# Altium schematic symbol library Schlib1.SchLib: 179 symbols
Pins are listed as number, name and electrical type; pins without a type are passive.

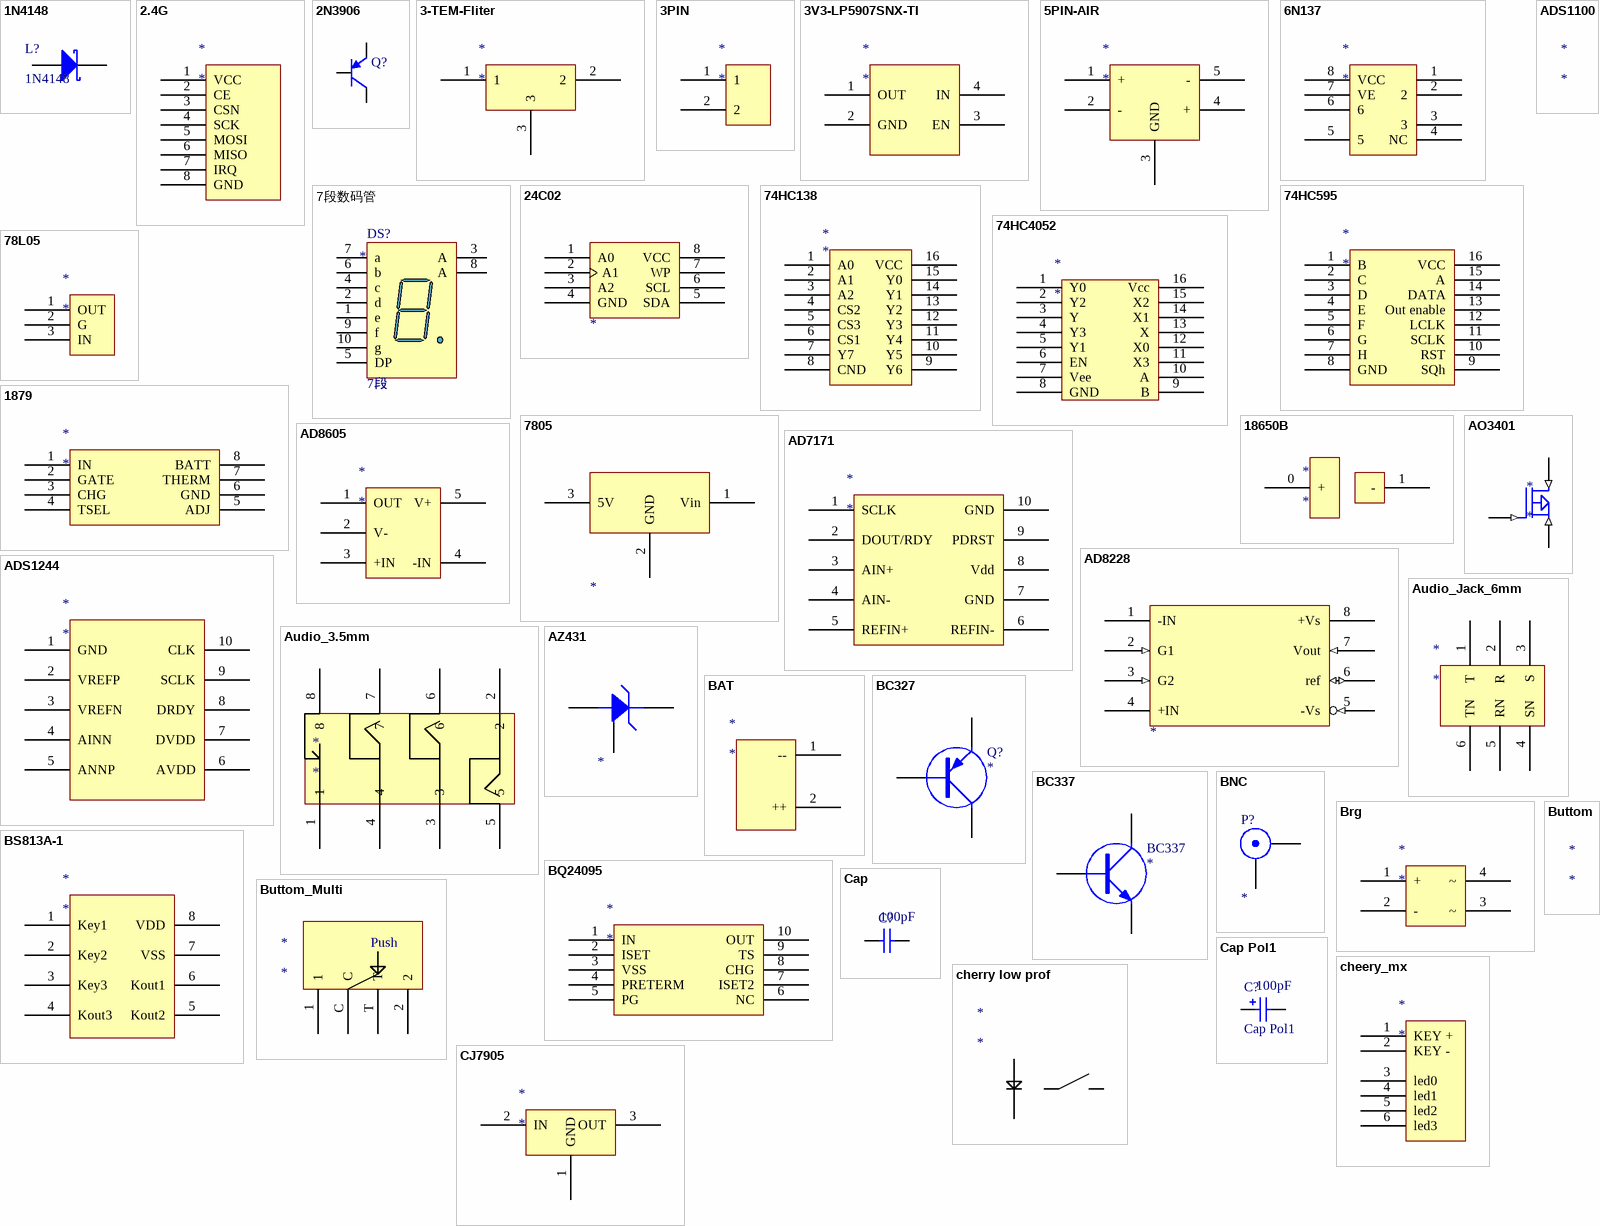
[diagram p0: symbols 1N4148 to CJ7905]

## 1N4148
designator L?
footprint C2012 (Chip Capacitor, 2-Leads, Body 2.0x1.2mm, IPC Low Density)
footprint SS54-DO-214AC
footprint SOD123/X.85 (SOD-123; 2 Leads; Body 2.7 x 1.6 mm, (LxW))
pins: 1 A, 2 K

## 2.4G
designator *
footprint 2.4G
pins: 1 VCC, 2 CE, 3 CSN, 4 SCK, 5 MOSI, 6 MISO, 7 IRQ, 8 GND

## 2N3906
designator Q?
PNP General Purpose Amplifier; Published: 8-Jun-2000; LatestRevisionDate: 15-Jan-2003; LatestRevisionNote: PCB Footprint 'BCY-W3/D4.7' replaced; DatasheetVersion: 1997; PackageVersion: Sep-1998; PackageReference: TO-92A; Publisher: Altium Limited; Code_JEDEC: TO-92A; ComponentLink1Description: Manufacturer Link; ComponentLink1URL: http://www.fairchildsemi.com/; ComponentLink2Description: Datasheet; ComponentLink2URL: http://www.fairchildsemi.com/ds/2N%2F2N3906.pdf
footprint BCY-W3/E4 (TO, Flat Index; 3 In-Line, Axial Leads; Body Dia. 4.5mm; Leads 0.51 x 0.48 mm (max))
simulation model 2N3906 (PNP)
signal-integrity model 2N3906
footprint AO3401
pins: 1 B, 2 E, 3 C

## 3-TEM-Fliter
designator *
pins: 1, 2, 3

## 3PIN
designator *
pins: 1, 2

## 3V3-LP5907SNX-TI
designator *
footprint X2SON_TLV743P (TI X2SON 5PIN 1.0 x 1.0 mm)
pins: 1 OUT, 2 GND, 3 EN, 4 IN

## 5PIN-AIR
designator *
pins: 1 +, 2 -, 3 GND, 4 +, 5 -

## 6N137
designator *
footprint DIP8
pins: 1, 2, 3, 4 NC, 5, 6, 7 VE, 8 VCC

## 7段数码管
designator DS?
14.2 mm General Purpose Blue 7-Segment Display: CA, RH DP, Gray Surface; MinimumIntensity: 2020 ucd; Note: IF = 10 mA; Published: 8-Jun-2000; LatestRevisionDate: 17-Dec-2003; LatestRevisionNote: Schematic revised, PCB Footprint replaced.; DatasheetVersion: 24-Sep-2002; PackageVersion: 24-Sep-2002; PackageReference: H; Publisher: Altium Limited; Colour: Blue; ComponentLink1Description: Manufacturer Link; ComponentLink1URL: http://www.agilent.com/
footprint LED-DIP10
footprint LEDDIP-10/C15.24RHD (LED, 7-Segment Display, 14.2 mm, RHD; 10 Leads; Row Space 15.24 mm; Pitch 2.54 mm)
pins: 1 e "Cathode", 2 d "Cathode", 3 A "Common Anode", 4 c "Cathode", 5 DP "Cathode", 6 b "Cathode", 7 a "Cathode", 8 A "Common Anode", 9 f "Cathode", 10 g "Cathode"
text: 7段

## 24C02
designator ?
footprint SI4435
pins: 1 A0, 2 A1, 3 A2, 4 GND, 5 SDA, 6 SCL, 7 WP, 8 VCC

## 74HC138
designator *
footprint SO-16
pins: 1 A0, 2 A1, 3 A2, 4 CS2, 5 CS3, 6 CS1, 7 Y7, 8 CND, 9 Y6, 10 Y5, 11 Y4, 12 Y3, 13 Y2, 14 Y1, 15 Y0, 16 VCC

## 74HC595
designator *
footprint 74HC595
pins: 1 B, 2 C, 3 D, 4 E, 5 F, 6 G, 7 H, 8 GND, 9 SQh, 10 RST, 11 SCLK, 12 LCLK, 13 Out enable, 14 DATA, 15 A, 16 VCC

## 74HC4052
designator *
footprint TSSOP-16
pins: 1 Y0, 2 Y2, 3 Y, 4 Y3, 5 Y1, 6 EN, 7 Vee, 8 GND, 9 B, 10 A, 11 X3, 12 X0, 13 X, 14 X1, 15 X2, 16 Vcc

## 78L05
designator *
footprint SOT-89-3
pins: 1 OUT, 2 G, 3 IN

## 1879
designator *
footprint 1879 (TSOP, 8-Leads, Body 3.00x3.00mm, Pitch 0.65mm, IPC Medium Density)
pins: 1 IN, 2 GATE, 3 CHG, 4 TSEL, 5 ADJ, 6 GND, 7 THERM, 8 BATT

## 7805
designator ?
footprint TO-252AA
footprint TO-220AB
pins: 1 Vin, 2 GND, 3 5V

## 18650B
designator *
pins: 0 +, 1 -

## AD7171
designator *
pins: 1 SCLK, 2 DOUT/RDY, 3 AIN+, 4 AIN-, 5 REFIN+, 6 REFIN-, 7 GND, 8 Vdd, 9 PDRST, 10 GND

## AD8228
designator ?
footprint MSOP-8
pins: 1 -IN, 2 G1 (in), 3 G2 (in), 4 +IN (power), 5 -Vs (in), 6 ref (io), 7 Vout (in), 8 +Vs (power)

## AD8605
designator *
footprint LC-SOT-23-5
pins: 1 OUT, 2 V-, 3 +IN, 4 -IN, 5 V+

## ADS1100
designator *

## ADS1244
designator *
24_ADC
pins: 1 GND, 2 VREFP, 3 VREFN, 4 AINN, 5 ANNP, 6 AVDD, 7 DVDD, 8 DRDY, 9 SCLK, 10 CLK

## AO3401
designator *
footprint AO3401
pins: 1 G (in), 2 S (in), 3 D (in)

## Audio_3.5mm
designator *
footprint Audio_3.5mm
pins: 1, 2, 3, 4, 5, 6, 7, 8

## Audio_Jack_6mm
designator *
footprint Audio_Jack6mm
pins: 1 T, 2 R, 3 S, 4 SN, 5 RN, 6 TN

## AZ431
designator ?
footprint tl431
footprint AZ431
pins: 1 REF, 2 CATHODE, 3 ANODE

## BAT
designator *
footprint CR2032-1
pins: 1 --, 2 ++

## BC327
designator Q?
PNP Transistor
footprint TO-92B
pins: 1 C, 2 B, 3 E

## BC337
designator BC337
NPN Transistor
footprint TO-92B
pins: 1 C, 2 B, 3 E

## BNC
designator P?
BNC Connector
footprint BNC
pins: 1 X, 2 Y

## BQ24095
designator *
pins: 1 IN, 2 ISET, 3 VSS, 4 PRETERM, 5 PG, 6 NC, 7 ISET2, 8 CHG, 9 TS, 10 OUT

## Brg
designator *
footprint SOIC-4
footprint Brg-DB207S
pins: 1 +, 2 -, 3 ~, 4 ~

## BS813A-1
designator *
footprint SI4435
pins: 1 Key1, 2 Key2, 3 Key3, 4 Kout3, 5 Kout2, 6 Kout1, 7 VSS, 8 VDD

## Buttom
designator *
footprint KEY-SMT

## Buttom_Multi
designator *
footprint Buttom
pins: 1, 2, C, T
text: Push

## Cap
designator C?, comment 100pF
Capacitor; Published: 8-Jun-2000; LatestRevisionDate: 17-Jul-2002; LatestRevisionNote: Re-released for DXP Platform.; PackageReference: RAD-0.3; Publisher: Altium Limited; Value: 100pF
footprint 1206C
footprint CAP_0603
pins: 1, 2

## Cap Pol1
designator C?  value 100pF
Polarized Capacitor (Radial); Published: 8-Jun-2000; LatestRevisionDate: 17-Jul-2002; LatestRevisionNote: Re-released for DXP Platform.; PackageReference: RB7.6-15; Publisher: Altium Limited
footprint 6032
footprint CAPPR1.27-1.7x2.8 (Capacitor, Radial, Tantalum; Body 1.7 x 2.8 mm (Dia.xH max); Pin Spacing 1.27 mm (typ))
footprint CAPPR1.5-4x5 (Capacitor, Electrolytic, Radial; Body 4 x 5 mm (Dia.xH typ); Pin Spacing 1.5 mm (typ))
footprint CAPPR2-5x6.8 (Capacitor, Electrolytic, Radial; Body 5 x 6.8 mm (Dia.xH typ); Pin Spacing 2 mm (typ))
footprint CAPPR5-5x5 (Capacitor, Electrolytic, Radial; Body 5 x 5 mm (Dia.xH typ); Pin Spacing 5 mm (typ))
footprint CAPPR7.5-16x35 (Capacitor, Electrolytic, Radial; Body 16 x 35 mm (Dia.xH typ); Pin Spacing 7.5 mm (typ))
simulation model CAP (Capacitor)
signal-integrity model Cap Pol
footprint 7243
footprint C-16V22UF
footprint C3528
footprint B_3528_LC_CASE
pins: 1, 2
1 alternate drawing of the same symbol

## cheery_mx
designator *
footprint cheery_mx
pins: 1 KEY +, 2 KEY -, 3 led0, 4 led1, 5 led2, 6 led3

## cherry low prof
designator *
footprint Kailh_Mec
pins: 1 +, 2 -, 3 +, 4 -

## CJ7905
designator *
footprint TO-252AA
pins: 1 GND, 2 IN, 3 OUT

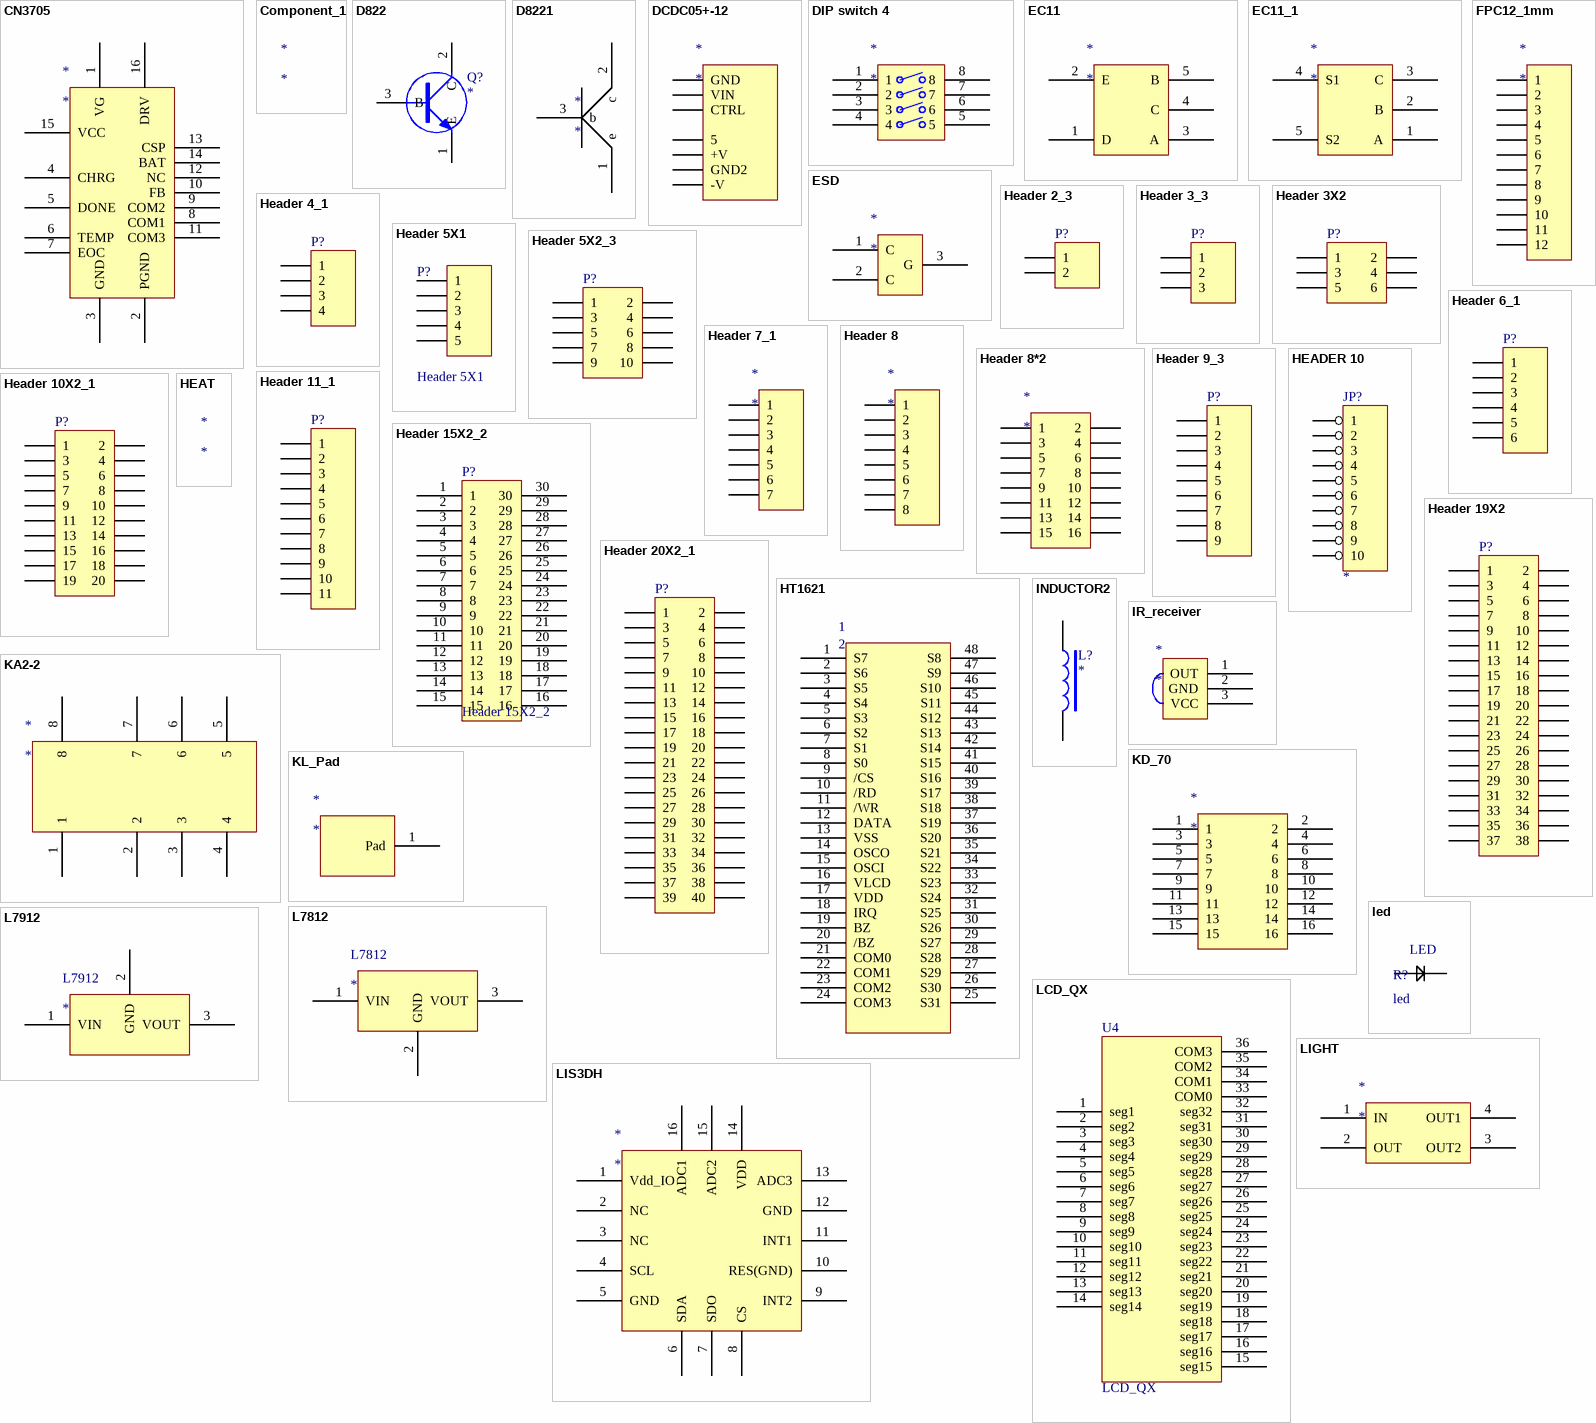
[diagram p1: symbols CN3705 to LIS3DH]

## CN3705
designator *
footprint TSSOP-16
pins: 1 VG, 2 PGND, 3 GND, 4 CHRG, 5 DONE, 6 TEMP, 7 EOC, 8 COM1, 9 COM2, 10 FB, 11 COM3, 12 NC, 13 CSP, 14 BAT, 15 VCC, 16 DRV

## Component_1
designator *

## D822
designator Q?
NPN Transistor
footprint TO-126-D822
pins: 1 E, 2 C, 3 B

## D8221
designator *
footprint TO-126-D822
pins: 1 e, 2 c, 3 b

## DCDC05+-12
designator *
footprint DCDC05+-12
pins: 1 GND, 2 VIN, 3 CTRL, 5, 6 +V, 7 GND2, 8 -V

## DIP switch 4
designator *
footprint DIP switch
pins: 1, 2, 3, 4, 5, 6, 7, 8

## EC11
designator *
footprint EC11
pins: 1 D, 2 E, 3 A, 4 C, 5 B

## EC11_1
designator *
footprint EC11_1
pins: 1 A, 2 B, 3 C, 4 S1, 5 S2

## ESD
designator *
footprint SOT-23
pins: 1 C, 2 C, 3 G

## FPC12_1mm
designator *
footprint FPC12_1.0MM
pins: 1, 2, 3, 4, 5, 6, 7, 8, 9, 10, 11, 12

## Header 2_3
designator P?
Header, 2-Pin; LatestRevisionDate: 17-Jul-2002; LatestRevisionNote: Re-released for DXP Platform.; Publisher: Altium Limited
footprint HDR1X2 (Connector; Header; 2 Position)
footprint POWER_2
pins: 1, 2

## Header 3_3
designator P?
Header, 3-Pin; LatestRevisionDate: 17-Jul-2002; LatestRevisionNote: Re-released for DXP Platform.; Publisher: Altium Limited
footprint HDR1X3 (Connector; Header; 3 Position)
pins: 1, 2, 3

## Header 3X2
designator P?
Header, 3-Pin, Dual row; LatestRevisionDate: 17-Jul-2002; LatestRevisionNote: Re-released for DXP Platform.; Publisher: Altium Limited
footprint HDR2X3 (Connector; Header; 3x2 Position)
signal-integrity model Connector
pins: 1, 2, 3, 4, 5, 6

## Header 4_1
designator P?
Header, 4-Pin; LatestRevisionDate: 17-Jul-2002; LatestRevisionNote: Re-released for DXP Platform.; Publisher: Altium Limited
footprint HDR1X4 (Connector; Header; 4 Position)
signal-integrity model Connector
footprint HDR1X4_2.54_180H
pins: 1, 2, 3, 4

## Header 5X1
designator P?
Header, 5-Pin, Dual row; LatestRevisionDate: 17-Jul-2002; LatestRevisionNote: Re-released for DXP Platform.; Publisher: Altium Limited
footprint HDR1X5 (Connector; Header; 5 Position)
pins: 1, 2, 3, 4, 5

## Header 5X2_3
designator P?
Header, 5-Pin, Dual row; LatestRevisionDate: 17-Jul-2002; LatestRevisionNote: Re-released for DXP Platform.; Publisher: Altium Limited
footprint HDR2X5 (Connector; Header; 5x2 Position)
pins: 1, 2, 3, 4, 5, 6, 7, 8, 9, 10

## Header 6_1
designator P?
Header, 6-Pin; LatestRevisionDate: 17-Jul-2002; LatestRevisionNote: Re-released for DXP Platform.; Publisher: Altium Limited
footprint HDR1X6 (Connector; Header; 6 Position)
signal-integrity model Connector
pins: 1, 2, 3, 4, 5, 6

## Header 7_1
designator *
footprint HDR1X7 (Connector; Header; 7 Position)
pins: 1, 2, 3, 4, 5, 6, 7

## Header 8
designator *
footprint TE 8Pin 3mm
footprint HDR8
pins: 1, 2, 3, 4, 5, 6, 7, 8

## Header 8*2
designator *
footprint HDR2*8
pins: 1, 2, 3, 4, 5, 6, 7, 8, 9, 10, 11, 12, 13, 14, 15, 16

## Header 9_3
designator P?
Header, 9-Pin; LatestRevisionDate: 17-Jul-2002; LatestRevisionNote: Re-released for DXP Platform.; Publisher: Altium Limited
footprint HDR1X9 (Connector; Header; 9 Position)
pins: 1, 2, 3, 4, 5, 6, 7, 8, 9

## HEADER 10
designator JP?
footprint FPC10(1.0mm) _OLED_SPI
pins: 1, 2, 3, 4, 5, 6, 7, 8, 9, 10

## Header 10X2_1
designator P?
Header, 10-Pin, Dual row; LatestRevisionDate: 17-Jul-2002; LatestRevisionNote: Re-released for DXP Platform.; Publisher: Altium Limited
footprint HDR2X10 (Connector; Header; 10x2 Position)
signal-integrity model Connector
pins: 1, 2, 3, 4, 5, 6, 7, 8, 9, 10, 11, 12, 13, 14, 15, 16, 17, 18, 19, 20

## Header 11_1
designator P?
Header, 11-Pin; LatestRevisionDate: 17-Jul-2002; LatestRevisionNote: Re-released for DXP Platform.; Publisher: Altium Limited
footprint HDR1X11 (Connector; Header; 11 Position)
signal-integrity model Connector
pins: 1, 2, 3, 4, 5, 6, 7, 8, 9, 10, 11

## Header 15X2_2
designator P?
Header, 14-Pin, Dual row; LatestRevisionDate: 17-Jul-2002; LatestRevisionNote: Re-released for DXP Platform.; Publisher: Altium Limited
signal-integrity model Connector
footprint HDR2X15_TFT (Connector; Header; 14x2 Position)
pins: 1, 2, 3, 4, 5, 6, 7, 8, 9, 10, 11, 12, 13, 14, 15, 16, 17, 18, 19, 20, 21, 22, 23, 24, 25, 26, 27, 28, 29, 30

## Header 19X2
designator P?
Header, 19-Pin, Dual row; LatestRevisionDate: 17-Jul-2002; LatestRevisionNote: Re-released for DXP Platform.; Publisher: Altium Limited
footprint HDR2X19 (Connector; Header; 19x2 Position)
signal-integrity model Connector
pins: 1, 2, 3, 4, 5, 6, 7, 8, 9, 10, 11, 12, 13, 14, 15, 16, 17, 18, 19, 20, 21, 22, 23, 24, 25, 26, 27, 28, 29, 30, 31, 32, 33, 34, 35, 36, 37, 38

## Header 20X2_1
designator P?
Header, 20-Pin, Dual row; LatestRevisionDate: 17-Jul-2002; LatestRevisionNote: Re-released for DXP Platform.; Publisher: Altium Limited
footprint HDR2X20 (Connector; Header; 20x2 Position)
signal-integrity model Connector
pins: 1, 2, 3, 4, 5, 6, 7, 8, 9, 10, 11, 12, 13, 14, 15, 16, 17, 18, 19, 20, 21, 22, 23, 24, 25, 26, 27, 28, 29, 30, 31, 32, 33, 34, 35, 36, 37, 38, 39, 40

## HEAT
designator *

## HT1621
designator 1, comment 2
footprint SSOP48
pins: 1 S7, 2 S6, 3 S5, 4 S4, 5 S3, 6 S2, 7 S1, 8 S0, 9 /CS, 10 /RD, 11 /WR, 12 DATA, 13 VSS, 14 OSCO, 15 OSCI, 16 VLCD, 17 VDD, 18 IRQ, 19 BZ, 20 /BZ, 21 COM0, 22 COM1, 23 COM2, 24 COM3, 25 S31, 26 S30, 27 S29, 28 S28, 29 S27, 30 S26, 31 S25, 32 S24, 33 S23, 34 S22, 35 S21, 36 S20, 37 S19, 38 S18, 39 S17, 40 S16, 41 S15, 42 S14, 43 S13, 44 S12, 45 S11, 46 S10, 47 S9, 48 S8

## INDUCTOR2
designator L?
footprint TDK12575
footprint 4012
pins: 1, 2

## IR_receiver
designator *
footprint IR
pins: 1 OUT, 2 GND, 3 VCC

## KA2-2
designator *
footprint G6S-2F
pins: 1, 2, 3, 4, 5, 6, 7, 8

## KD_70
designator *
footprint KD-70D
pins: 1, 2, 3, 4, 5, 6, 7, 8, 9, 10, 11, 12, 13, 14, 15, 16

## KL_Pad
designator *
footprint KL_Pad
pins: 1 Pad

## L7812
designator L7812
ST-L7812ACD2T
footprint TO252
footprint TO-220AB
pins: 1 VIN, 2 GND, 3 VOUT

## L7912
designator L7912
footprint TO252
footprint TO-220AB
pins: 1 VIN, 2 GND, 3 VOUT

## LCD_QX
designator U4
footprint LCD48
pins: 1 seg1, 2 seg2, 3 seg3, 4 seg4, 5 seg5, 6 seg6, 7 seg7, 8 seg8, 9 seg9, 10 seg10, 11 seg11, 12 seg12, 13 seg13, 14 seg14, 15 seg15, 16 seg16, 17 seg17, 18 seg18, 19 seg19, 20 seg20, 21 seg21, 22 seg22, 23 seg23, 24 seg24, 25 seg25, 26 seg26, 27 seg27, 28 seg28, 29 seg29, 30 seg30, 31 seg31, 32 seg32, 33 COM0, 34 COM1, 35 COM2, 36 COM3

## led
designator R?
Resistor; Published: 8-Jun-2000; LatestRevisionDate: 17-Jul-2002; LatestRevisionNote: Re-released for DXP Platform.; PackageReference: AXIAL-0.3; Publisher: Altium Limited; Value: LED
simulation model RESISTOR (Resistor)
footprint LED_0805_RED
footprint 2×5led
footprint LED 1W
footprint LED IR
footprint LED_0603_GREEN
pins: 1, 2

## LIGHT
designator *
footprint LIGHT
pins: 1 IN, 2 OUT, 3 OUT2, 4 OUT1

## LIS3DH
designator *
motion sensor
footprint LGA16
pins: 1 Vdd_IO, 2 NC, 3 NC, 4 SCL, 5 GND, 6 SDA, 7 SDO, 8 CS, 9 INT2, 10 RES(GND), 11 INT1, 12 GND, 13 ADC3, 14 VDD, 15 ADC2, 16 ADC1

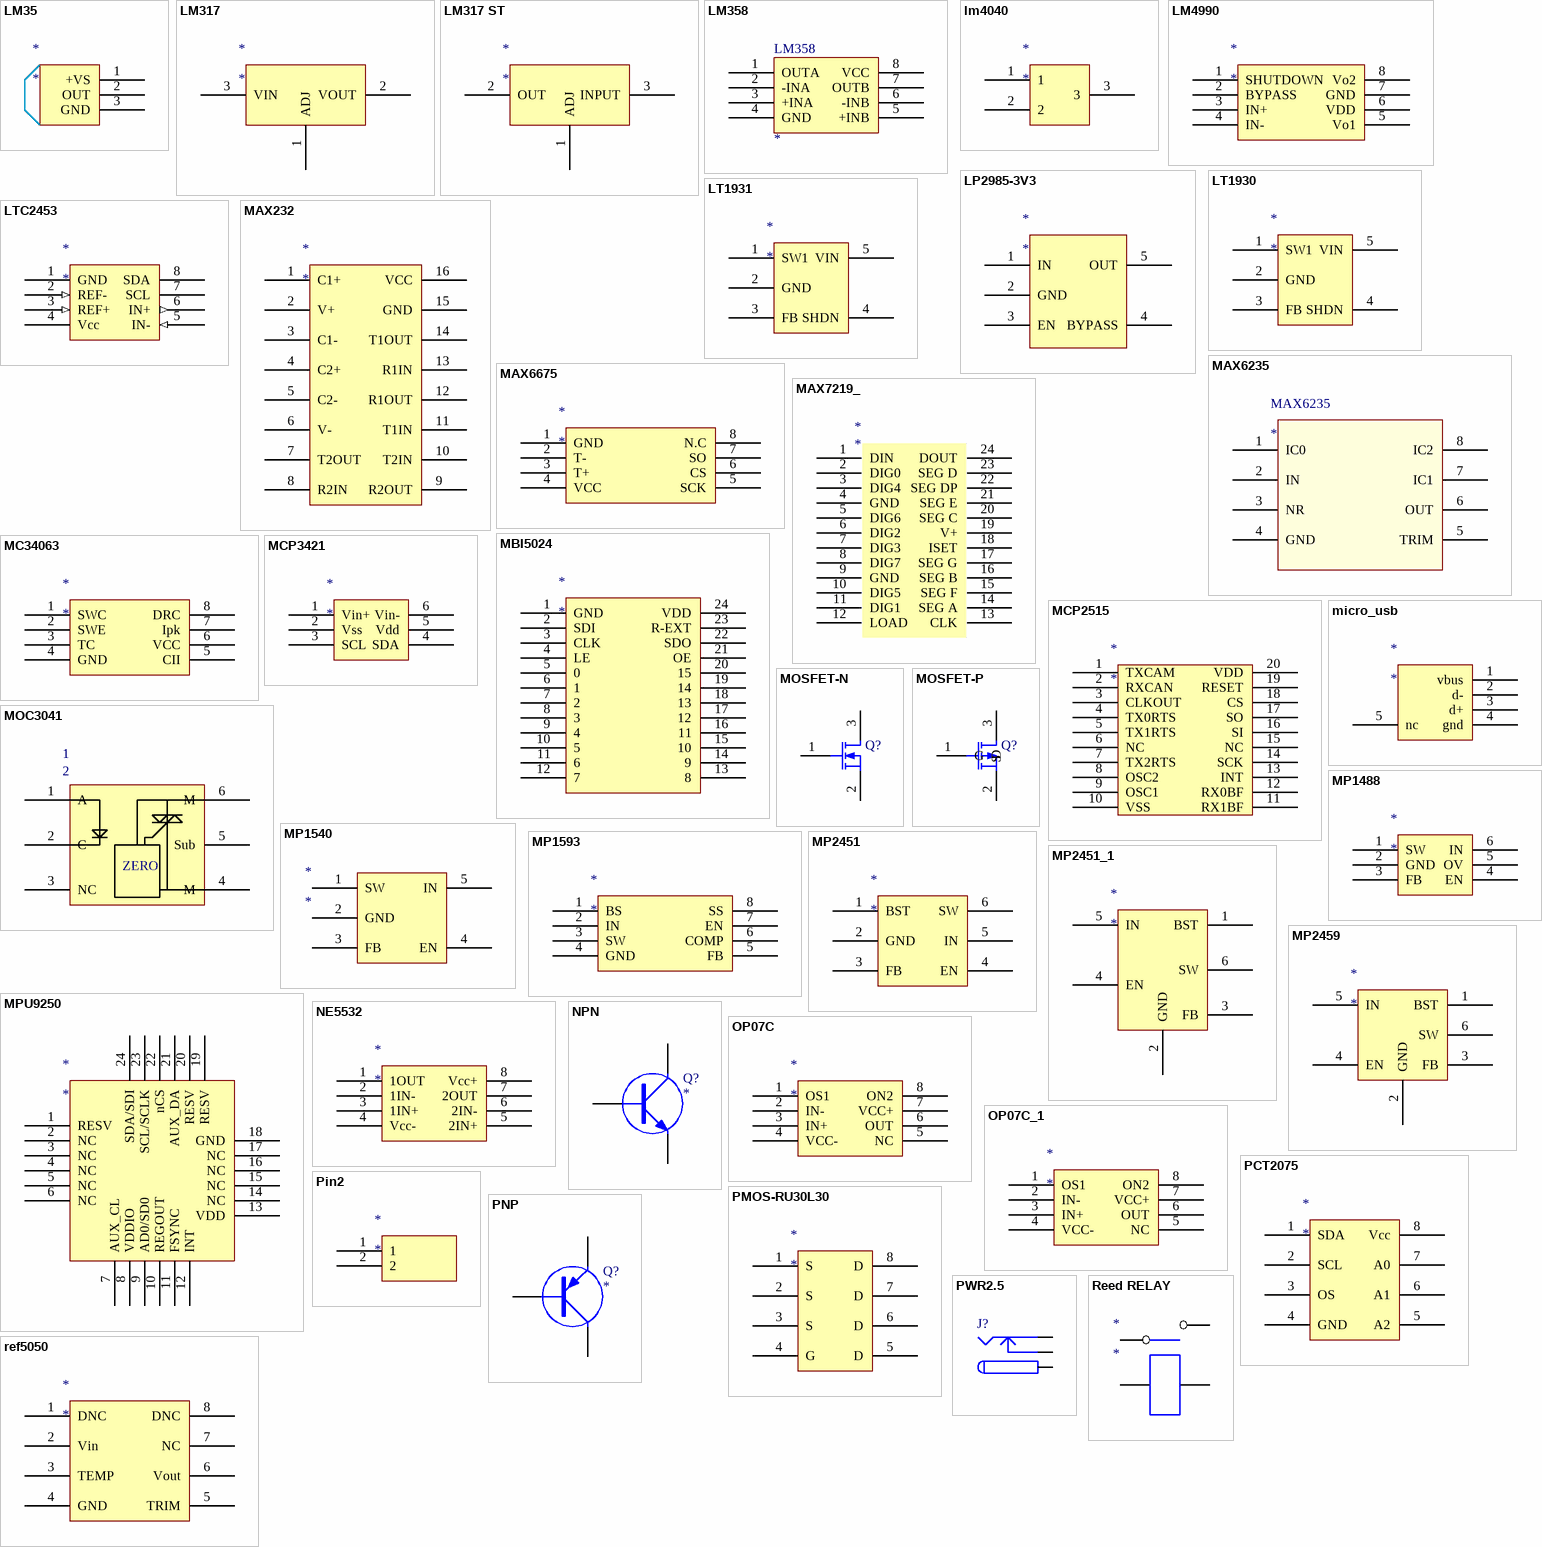
[diagram p2: symbols LM35 to ref5050]

## LM35
designator *
TEMP SENSOR
footprint IR
pins: 1 +VS, 2 OUT, 3 GND

## LM317
designator *
footprint TO252
pins: 1 ADJ, 2 VOUT, 3 VIN

## LM317 ST
designator *
footprint TO-220AB
footprint TO-252AA
pins: 1 ADJ, 2 OUT, 3 INPUT

## LM358
designator LM358
footprint LM358
footprint TSSOP-8
pins: 1 OUTA, 2 -INA, 3 +INA, 4 GND, 5 +INB, 6 -INB, 7 OUTB, 8 VCC

## lm4040
designator *
pins: 1, 2, 3

## LM4990
designator *
footprint MSOP-8
pins: 1 SHUTDOWN, 2 BYPASS, 3 IN+, 4 IN-, 5 Vo1, 6 VDD, 7 GND, 8 Vo2

## LP2985-3V3
designator *
footprint SOT-23-5
pins: 1 IN, 2 GND, 3 EN, 4 BYPASS, 5 OUT

## LT1930
designator *
pins: 1 SW1, 2 GND, 3 FB, 4 SHDN, 5 VIN

## LT1931
designator *
pins: 1 SW1, 2 GND, 3 FB, 4 SHDN, 5 VIN

## LTC2453
designator *
footprint TSOT8
pins: 1 GND, 2 REF- (in), 3 REF+ (in), 4 Vcc (power), 5 IN- (in), 6 IN+ (out), 7 SCL (power), 8 SDA

## MAX232
designator *
footprint SOIC16 (SOIC, 16-Leads, Body 9.90x3.90mm, Pitch 1.27mm, IPC Medium Density)
pins: 1 C1+, 2 V+, 3 C1-, 4 C2+, 5 C2-, 6 V-, 7 T2OUT, 8 R2IN, 9 R2OUT, 10 T2IN, 11 T1IN, 12 R1OUT, 13 R1IN, 14 T1OUT, 15 GND, 16 VCC

## MAX6235
designator MAX6235
footprint MAX6325 (SOIC, 8-Leads, Body 4.90x3.90mm, Pitch 1.27mm, IPC Medium Density)
pins: 1 IC0, 2 IN, 3 NR, 4 GND, 5 TRIM, 6 OUT, 7 IC1, 8 IC2

## MAX6675
designator *
footprint MAX6675
pins: 1 GND, 2 T-, 3 T+, 4 VCC, 5 SCK, 6 CS, 7 SO, 8 N.C

## MAX7219_
designator *
footprint SOIC-24_300mil
pins: 1 DIN, 2 DIG0, 3 DIG4, 4 GND, 5 DIG6, 6 DIG2, 7 DIG3, 8 DIG7, 9 GND, 10 DIG5, 11 DIG1, 12 LOAD, 13 CLK, 14 SEG A, 15 SEG F, 16 SEG B, 17 SEG G, 18 ISET, 19 V+, 20 SEG C, 21 SEG E, 22 SEG DP, 23 SEG D, 24 DOUT

## MBI5024
designator *
pins: 1 GND, 2 SDI, 3 CLK, 4 LE, 5 0, 6 1, 7 2, 8 3, 9 4, 10 5, 11 6, 12 7, 13 8, 14 9, 15 10, 16 11, 17 12, 18 13, 19 14, 20 15, 21 OE, 22 SDO, 23 R-EXT, 24 VDD

## MC34063
designator *
footprint SI4435
pins: 1 SWC, 2 SWE, 3 TC, 4 GND, 5 CII, 6 VCC, 7 Ipk, 8 DRC

## MCP2515
designator *
footprint TSSOP20_M (6.5*6.4*1（长宽高）)
pins: 1 TXCAM, 2 RXCAN, 3 CLKOUT, 4 TX0RTS, 5 TX1RTS, 6 NC, 7 TX2RTS, 8 OSC2, 9 OSC1, 10 VSS, 11 RX1BF, 12 RX0BF, 13 INT, 14 SCK, 15 NC, 16 SI, 17 SO, 18 CS, 19 RESET, 20 VDD

## MCP3421
designator *
footprint SOT-23-6
pins: 1 Vin+, 2 Vss, 3 SCL, 4 SDA, 5 Vdd, 6 Vin-

## micro_usb
designator *
footprint Micro_usb2.0
footprint USB_Micro-AB
pins: 1 vbus, 2 d-, 3 d+, 4 gnd, 5 nc

## MOC3041
designator 1, comment 2
footprint DIP6
pins: 1 A, 2 C, 3 NC, 4 M, 5 Sub, 6 M
text: ZERO

## MOSFET-N
designator Q?
N-Channel MOSFET; Published: 8-Jun-2000; LatestRevisionDate: 17-Jul-2002; LatestRevisionNote: Re-released for DXP Platform.; PackageVersion: 1995/1996; PackageReference: E3; Publisher: Altium Limited
footprint BCY-W3/B.8 (TO, Flat Index; 3 In-Line, Axial Leads; Body Dia. 4.6mm; Lead Dia. 0.5 mm (max))
simulation model NMOS (MOSFET-N)
pins: 1 G, 2 S, 3 D

## MOSFET-P
designator Q?
P-Channel MOSFET; Published: 8-Jun-2000; LatestRevisionDate: 17-Jul-2002; LatestRevisionNote: Re-released for DXP Platform.; PackageVersion: 1995/1996; PackageReference: E3; Publisher: Altium Limited
footprint TO-220AB
footprint IRFR9024
pins: 1 G, 2 S, 3 D

## MP1488
designator *
footprint SOT-23-6
pins: 1 SW, 2 GND, 3 FB, 4 EN, 5 OV, 6 IN

## MP1540
designator *
footprint TSOT23-5
pins: 1 SW (power), 2 GND (power), 3 FB, 4 EN (power), 5 IN

## MP1593
designator *
pins: 1 BS, 2 IN, 3 SW, 4 GND, 5 FB, 6 COMP, 7 EN, 8 SS

## MP2451
designator *
footprint SOT-23-6
pins: 1 BST, 2 GND, 3 FB, 4 EN, 5 IN, 6 SW

## MP2451_1
designator *
footprint SOT-23-6
pins: 1 BST, 2 GND, 3 FB, 4 EN, 5 IN, 6 SW

## MP2459
designator *
footprint SOT-23-6
pins: 1 BST, 2 GND, 3 FB, 4 EN, 5 IN, 6 SW

## MPU9250
designator *
footprint MPU9250
pins: 1 RESV, 2 NC, 3 NC, 4 NC, 5 NC, 6 NC, 7 AUX_CL, 8 VDDIO, 9 AD0/SD0, 10 REGOUT, 11 FSYNC, 12 INT, 13 VDD, 14 NC, 15 NC, 16 NC, 17 NC, 18 GND, 19 RESV, 20 RESV, 21 AUX_DA, 22 nCS, 23 SCL/SCLK, 24 SDA/SDI

## NE5532
designator *
footprint LM358
pins: 1 1OUT, 2 1IN-, 3 1IN+, 4 Vcc-, 5 2IN+, 6 2IN-, 7 2OUT, 8 Vcc+

## NPN
designator Q?
NPN Transistor
pins: 1 B, 2 C, 3 E

## OP07C
designator *
pins: 1 OS1, 2 IN-, 3 IN+, 4 VCC-, 5 NC, 6 OUT, 7 VCC+, 8 ON2

## OP07C_1
designator *
footprint LM358
pins: 1 OS1, 2 IN-, 3 IN+, 4 VCC-, 5 NC, 6 OUT, 7 VCC+, 8 ON2

## PCT2075
designator *
footprint SI4435
pins: 1 SDA, 2 SCL, 3 OS, 4 GND, 5 A2, 6 A1, 7 A0, 8 Vcc

## Pin2
designator *
footprint PIN_2
footprint ALPS
pins: 1, 2

## PMOS-RU30L30
designator *
footprint VSON-8
pins: 1 S, 2 S, 3 S, 4 G, 5 D, 6 D, 7 D, 8 D

## PNP
designator Q?
PNP Transistor
pins: 1 B, 2 E, 3 C

## PWR2.5
designator J?
Low Voltage Power Supply Connector; Published: 17-Dec-2003; DatasheetDocument: 09-May-2002; Publisher: Altium Limited; ComponentLink1Description: Manufacturer Link; ComponentLink1URL: http://domino.kycon.com/internet/Products.html
footprint KLD-0202 (DC Power Jack, 2.5mm, KLD Series, PCB Mount)
signal-integrity model Connector
pins: 1 (power), 1A (power), 1B (power), 2 (power), 2A (power), 2B (power), 3 (power), 3A (power), 3B (power)

## Reed RELAY
designator *
footprint Reed RELAY
pins: 1, 3, 5, 7

## ref5050
designator *
footprint VP230_Can (SOIC, 8-Leads, Body 4.90x3.90mm, Pitch 1.27mm, IPC Medium Density)
pins: 1 DNC, 2 Vin, 3 TEMP, 4 GND, 5 TRIM, 6 Vout, 7 NC, 8 DNC

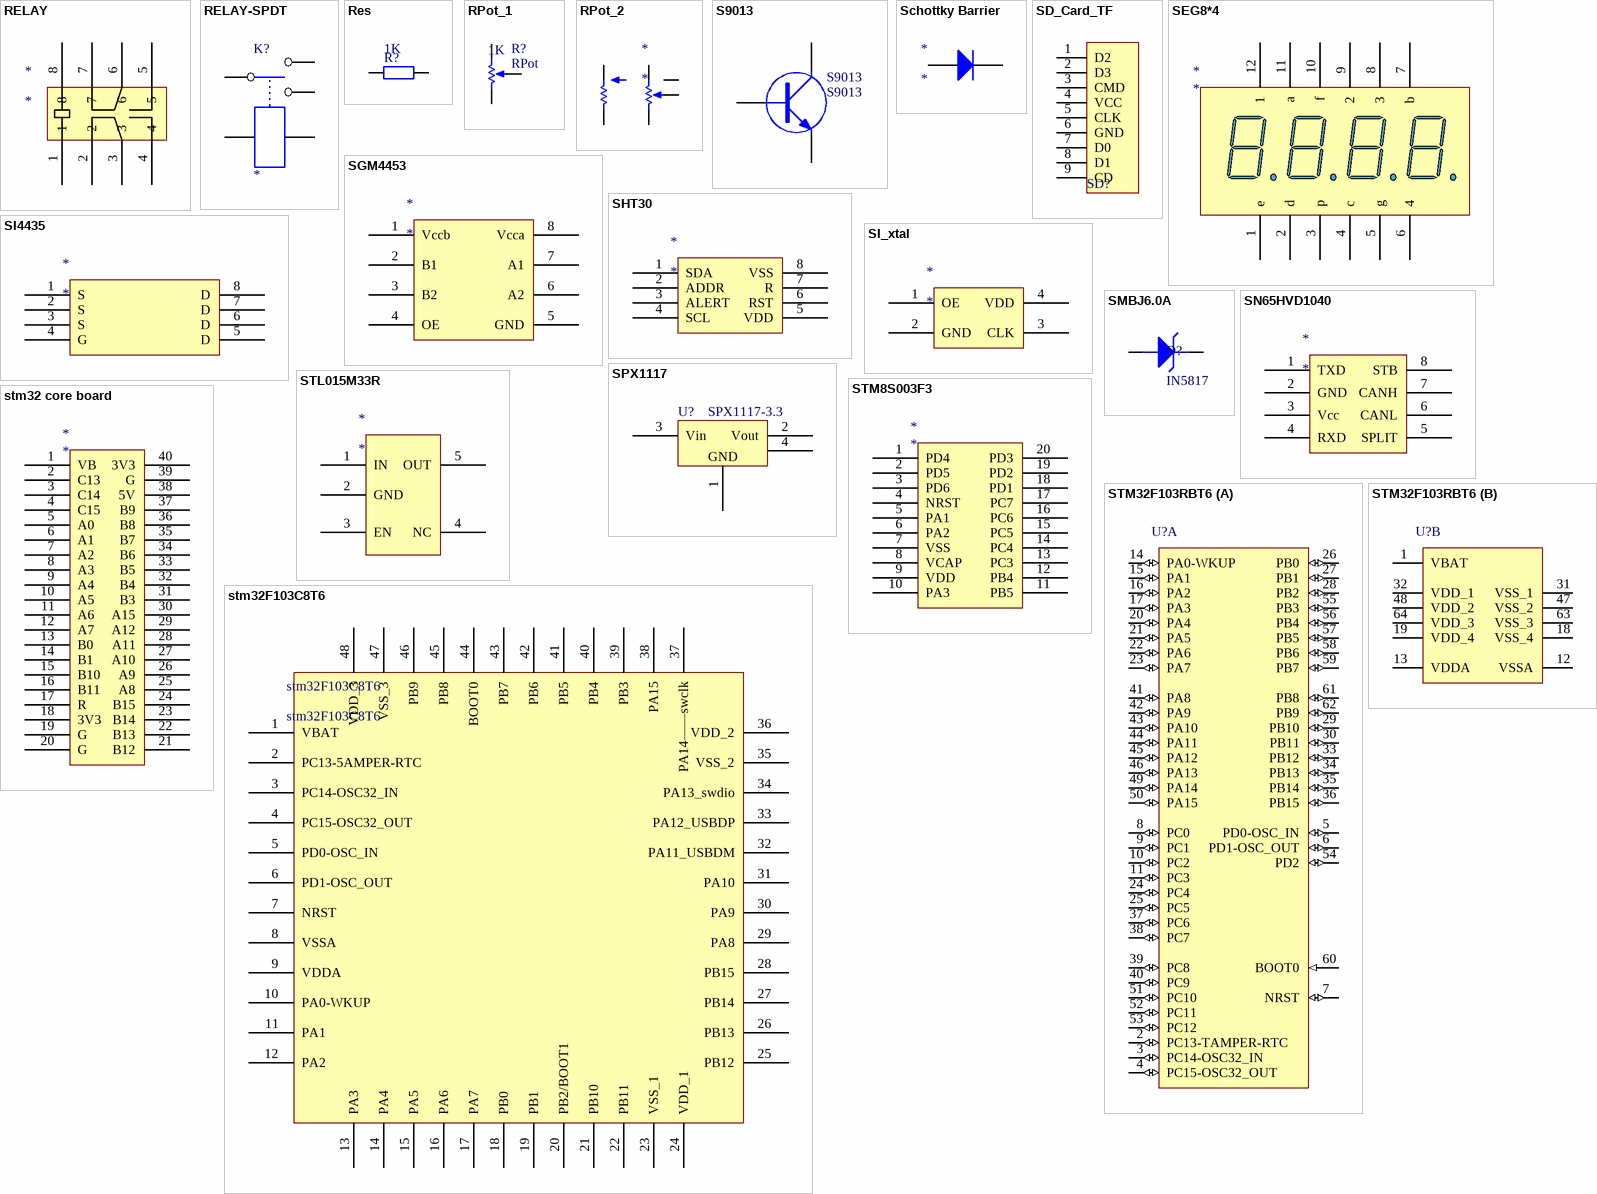
[diagram p3: symbols RELAY to STM32F103RBT6]

## RELAY
designator *
pins: 1, 2, 3, 4, 5, 6, 7, 8

## RELAY-SPDT
designator K?
footprint Relay-HF
pins: 1, 2, 3, 4, 5

## Res
designator R?, comment 1K
Resistor; Published: 8-Jun-2000; LatestRevisionDate: 17-Jul-2002; LatestRevisionNote: Re-released for DXP Platform.; PackageReference: AXIAL-0.4; Publisher: Altium Limited; Value: 1K
footprint RES_0201
footprint RES_0402
footprint RES_0603
footprint RES_0805
pins: 1, 2

## RPot_1
designator R?, comment RPot  value 1K
电位器; Sim Note: Enter the Resistance value and the set point into parameter fields.; Set Position: 0.5; Published: 8-Jun-2000; LatestRevisionDate: 17-Jul-2002; LatestRevisionNote: Re-released for DXP Platform.; PackageReference: VR5; Publisher: Altium Limited
footprint RP1
footprint R_set
footprint EVND8A-20K
pins: 1 TOP, 2 TAP, 3 BOT
1 alternate drawing of the same symbol

## RPot_2
designator *
footprint Res_variable
pins: 1 TOP, 2 TAP, 3 BOT, 4 BOT, 5 TAP, 6 TOP

## S9013
designator S9013
NPN Transistor
footprint SOT-23
footprint TO-92B
pins: 1 B, 2 E, 3 C

## Schottky Barrier
designator *
footprint SOD-323
pins: 1 C, 2 K

## SD_Card_TF
designator SD?  (value not drawn)
SD
footprint SD_Card_TF
footprint SD_Card_TF
pins: 1 D2, 2 D3, 3 CMD, 4 VCC, 5 CLK, 6 GND, 7 D0, 8 D1, 9 CD

## SEG8*4
designator *
footprint SEG4*8
pins: 1 e, 2 d, 3 p, 4 c, 5 g, 6 4, 7 b, 8 3, 9 2, 10 f, 11 a, 12 1

## SGM4453
designator *
footprint SOT-23-8
pins: 1 Vccb, 2 B1, 3 B2, 4 OE, 5 GND, 6 A2, 7 A1, 8 Vcca

## SHT30
designator *
footprint SHT30
pins: 1 SDA, 2 ADDR, 3 ALERT, 4 SCL, 5 VDD, 6 RST, 7 R, 8 VSS

## SI4435
designator *
footprint SI4435
footprint VSON-8
pins: 1 S, 2 S, 3 S, 4 G, 5 D, 6 D, 7 D, 8 D

## SI_xtal
designator *
pins: 1 OE, 2 GND, 3 CLK, 4 VDD

## SMBJ6.0A
designator D?, comment IN5817
footprint SMBJ6.0CA
pins: 1 A, 2 K

## SN65HVD1040
designator *
footprint MAX6675
pins: 1 TXD, 2 GND, 3 Vcc, 4 RXD, 5 SPLIT, 6 CANL, 7 CANH, 8 STB

## SPX1117
designator U?, comment SPX1117-3.3
footprint SOT223 (SOT-223/SC-73; 4 Leads; Body 6.7 x 7.3 mm, inc. leads (LxW max))
pins: 1, 2 Vout, 3 Vin, 4
text: GND

## STL015M33R
designator *
footprint SOT-23-5
pins: 1 IN, 2 GND, 3 EN, 4 NC, 5 OUT

## STM8S003F3
designator *
footprint TSSOP20_M (6.5*6.4*1（长宽高）)
pins: 1 PD4, 2 PD5, 3 PD6, 4 NRST, 5 PA1, 6 PA2, 7 VSS, 8 VCAP, 9 VDD, 10 PA3, 11 PB5, 12 PB4, 13 PC3, 14 PC4, 15 PC5, 16 PC6, 17 PC7, 18 PD1, 19 PD2, 20 PD3

## stm32 core board
designator *
footprint stm32 core board
pins: 1 VB, 2 C13, 3 C14, 4 C15, 5 A0, 6 A1, 7 A2, 8 A3, 9 A4, 10 A5, 11 A6, 12 A7, 13 B0, 14 B1, 15 B10, 16 B11, 17 R, 18 3V3, 19 G, 20 G, 21 B12, 22 B13, 23 B14, 24 B15, 25 A8, 26 A9, 27 A10, 28 A11, 29 A12, 30 A15, 31 B3, 32 B4, 33 B5, 34 B6, 35 B7, 36 B8, 37 B9, 38 5V, 39 G, 40 3V3

## stm32F103C8T6
designator stm32F103C8T6
footprint stm32_48 (TSQFP, 48-Leads, Body 7.10x7.10mm, Pitch 0.50mm, IPC Medium Density)
pins: 1 VBAT, 2 PC13-5AMPER-RTC, 3 PC14-OSC32_IN, 4 PC15-OSC32_OUT, 5 PD0-OSC_IN, 6 PD1-OSC_OUT, 7 NRST, 8 VSSA, 9 VDDA, 10 PA0-WKUP, 11 PA1, 12 PA2, 13 PA3, 14 PA4, 15 PA5, 16 PA6, 17 PA7, 18 PB0, 19 PB1, 20 PB2/BOOT1, 21 PB10, 22 PB11, 23 VSS_1, 24 VDD_1, 25 PB12, 26 PB13, 27 PB14, 28 PB15, 29 PA8, 30 PA9, 31 PA10, 32 PA11_USBDM, 33 PA12_USBDP, 34 PA13_swdio, 35 VSS_2, 36 VDD_2, 37 PA14——swclk, 38 PA15, 39 PB3, 40 PB4, 41 PB5, 42 PB6, 43 PB7, 44 BOOT0, 45 PB8, 46 PB9, 47 VSS_3, 48 VDD_3

## STM32F103RBT6
designator U?
ARM Cortex-M3 32-bit MCU, 128 KB Flash, 20 KB Internal RAM, 51 I/Os, 64-pin LQFP, -40 to 85 degC, Tray; PartNumber: STM32F103RBT6; A/D Converter: 2x12-bit (16 Channel); FLASH Size (Prog) (kB): 128; I/Os (High Current): 51; Internal RAM Size (kB): 20; Operating Frequency(F) (Processor speed) (MHz): 72; Supply Voltage(Vcc) min (V): 2; DatasheetVersion: Rev. 16; PackageVersion: Rev. 4, 06/2013; PackageReference: LQFP64; PackageDescription: 64-Pin Low Profile Quad Flat Package, 10 x 10 mm Body, 0.5 mm Pitch; Supplier 1: Digi-Key; Supplier Part Number 1: 497-6066-ND; Supplier 2: Farnell; Supplier Part Number 2: 1447640; Supplier 3: Newark; Supplier Part Number 3: 59M2183; Supplier 4: Newark; Supplier Part Number 4: 57P1224; Supplier 5: Mouser; Supplier Part Number 5: 511-STM32F103RBT6; Core: ARM Cortex-M3; Packing: Tray; Mounting Technology: Surface Mount; ComponentLink1Description: Manufacturer URL; ComponentLink1URL: http://www.st.com/web/en/home.html; ComponentLink2Description: Datasheet; ComponentLink2URL: http://www.st.com/st-web-ui/static/active/en/resource/technical/document/datasheet/CD00161566.pdf; ComponentLink3Description: Package Specification; ComponentLink3URL: http://www.st.com/st-web-ui/static/active/en/resource/technical/document/datasheet/DM00037051.pdf
footprint STM-LQFP64_N (Thin QFP, 64-Leads, Body 10x10mm, Pitch 0.5mm, IPC Medium Density)
footprint STM-LQFP64_L (Thin QFP, 64-Leads, Body 10x10mm, Pitch 0.5mm, IPC High Density)
footprint STM-LQFP64_M (Thin QFP, 64-Leads, Body 10x10mm, Pitch 0.5mm, IPC Low Density)
footprint STM-LQFP64_V (Thin QFP, 64-Leads, Body 10x10mm, Pitch 0.5mm, ST Recommended)
part A pins: 2 PC13-TAMPER-RTC (io) "PC13-TAMPER-RTC/PC13/TAMPER-RTC", 3 PC14-OSC32_IN (io) "PC14-OSC32_IN/PC14/OSC32_IN", 4 PC15-OSC32_OUT (io) "PC15-OSC32_OUT/PC15/OSC32_OUT", 5 PD0-OSC_IN (io) "PD0/OSC_IN", 6 PD1-OSC_OUT (io) "PD1/OSC_OUT", 7 NRST (io), 8 PC0 (io) "PC0/ADC12_IN10", 9 PC1 (io) "PC1/ADC12_IN11", 10 PC2 (io) "PC2/ADC12_IN12", 11 PC3 (io) "PC3/ADC12_IN13", 14 PA0-WKUP (io) "PA0-WKUP/PA0/WKUP/USART2_CTS/ADC12_IN0/TIM2_CH1_ETR", 15 PA1 (io) "PA1/USART2_RTS/ADC12_IN1/TIM2_CH2", 16 PA2 (io) "PA2/USART2_TX/ADC12_IN2/TIM2_CH3", 17 PA3 (io) "PA3/USART2_RX/ADC12_IN3/TIM2_CH4", 20 PA4 (io) "PA4/SPI1_NSS/USART2_CK/ADC12_IN4", 21 PA5 (io) "PA5/SPI1_SCK/ADC12_IN5", 22 PA6 (io) "PA6/SPI1_MISO/ADC12_IN6/TIM3_CH1/TIM1_BKIN", 23 PA7 (io) "PA7/SPI1_MOSI/ADC12_IN7/TIM3_CH2/TIM1_CH1N", 24 PC4 (io) "PC4/ADC12_IN14", 25 PC5 (io) "PC5/ADC12_IN15", 26 PB0 (io) "PB0/ADC12_IN8/TIM3_CH3/TIM1_CH2N", 27 PB1 (io) "PB1/ADC12_IN9/TIM3_CH4/TIM1_CH3N", 28 PB2 (io) "PB2/BOOT1", 29 PB10 (io) "PB10/I2C2_SCL/USART3_TX/TIM2_CH3", 30 PB11 (io) "PB11/I2C2_SDA/USART3_RX/TIM2_CH4", 33 PB12 (io) "PB12/SPI2_NSS/I2C2_SMBAl/USART3_CK/TIM1_BKIN", 34 PB13 (io) "PB13/SPI2_SCK/USART3_CTS/TIM1_CH1N", 35 PB14 (io) "PB14/SPI2_MISO/USART3_RTS/TIM1_CH2N", 36 PB15 (io) "PB15/SPI2_MOSI/TIM1_CH3N", 37 PC6 (io) "PC6/TIM3_CH1", 38 PC7 (io) "PC7/TIM3_CH2", 39 PC8 (io) "PC8/TIM3_CH3", 40 PC9 (io) "PC9/TIM3_CH4", 41 PA8 (io) "PA8/USART1_CK/TIM1_CH1/MCO", 42 PA9 (io) "PA9/USART1_TX/TIM1_CH2", 43 PA10 (io) "PA10/USART1_RX/TIM1_CH3", 44 PA11 (io) "PA11/USART1_CTS/CANRX/USBDM/TIM1_CH4", 45 PA12 (io) "PA12/USART1_RTS/CANTX/USBDP/TIM1_ETR", 46 PA13 (io) "PA13/JTMS/SWDIO", 49 PA14 (io) "PA14/JTCK/SWCLK", 50 PA15 (io) "PA15/JTDI/TIM2_CH1_ETR/SPI1_NSS", 51 PC10 (io) "PC10/USART3_TX", 52 PC11 (io) "PC11/USART3_RX", 53 PC12 (io) "PC12/USART3_CK", 54 PD2 (io) "PD2/TIM3_ETR", 55 PB3 (io) "PB3/JTDO/TIM2_CH2/TRACESWO/SPI1_SCK", 56 PB4 (io) "PB4/NJTRST/TIM3_CH1/SPI1_MISO", 57 PB5 (io) "PB5/I2C1_SMBAI/TIM3_CH2/SPI1_MOSI", 58 PB6 (io) "PB6/I2C1_SCL/TIM4_CH1/USART1_TX", 59 PB7 (io) "PB7/I2C1_SDA/TIM4_CH2/USART1_RX", 60 BOOT0 (in), 61 PB8 (io) "PB8/TIM4_CH3/I2C1_SCL/CANRX", 62 PB9 (io) "PB9/TIM4_CH4/I2C1_SDA/CANTX"
part B pins: 1 VBAT (power), 12 VSSA (power), 13 VDDA (power), 18 VSS_4 (power), 19 VDD_4 (power), 31 VSS_1 (power), 32 VDD_1 (power), 47 VSS_2 (power), 48 VDD_2 (power), 63 VSS_3 (power), 64 VDD_3 (power)

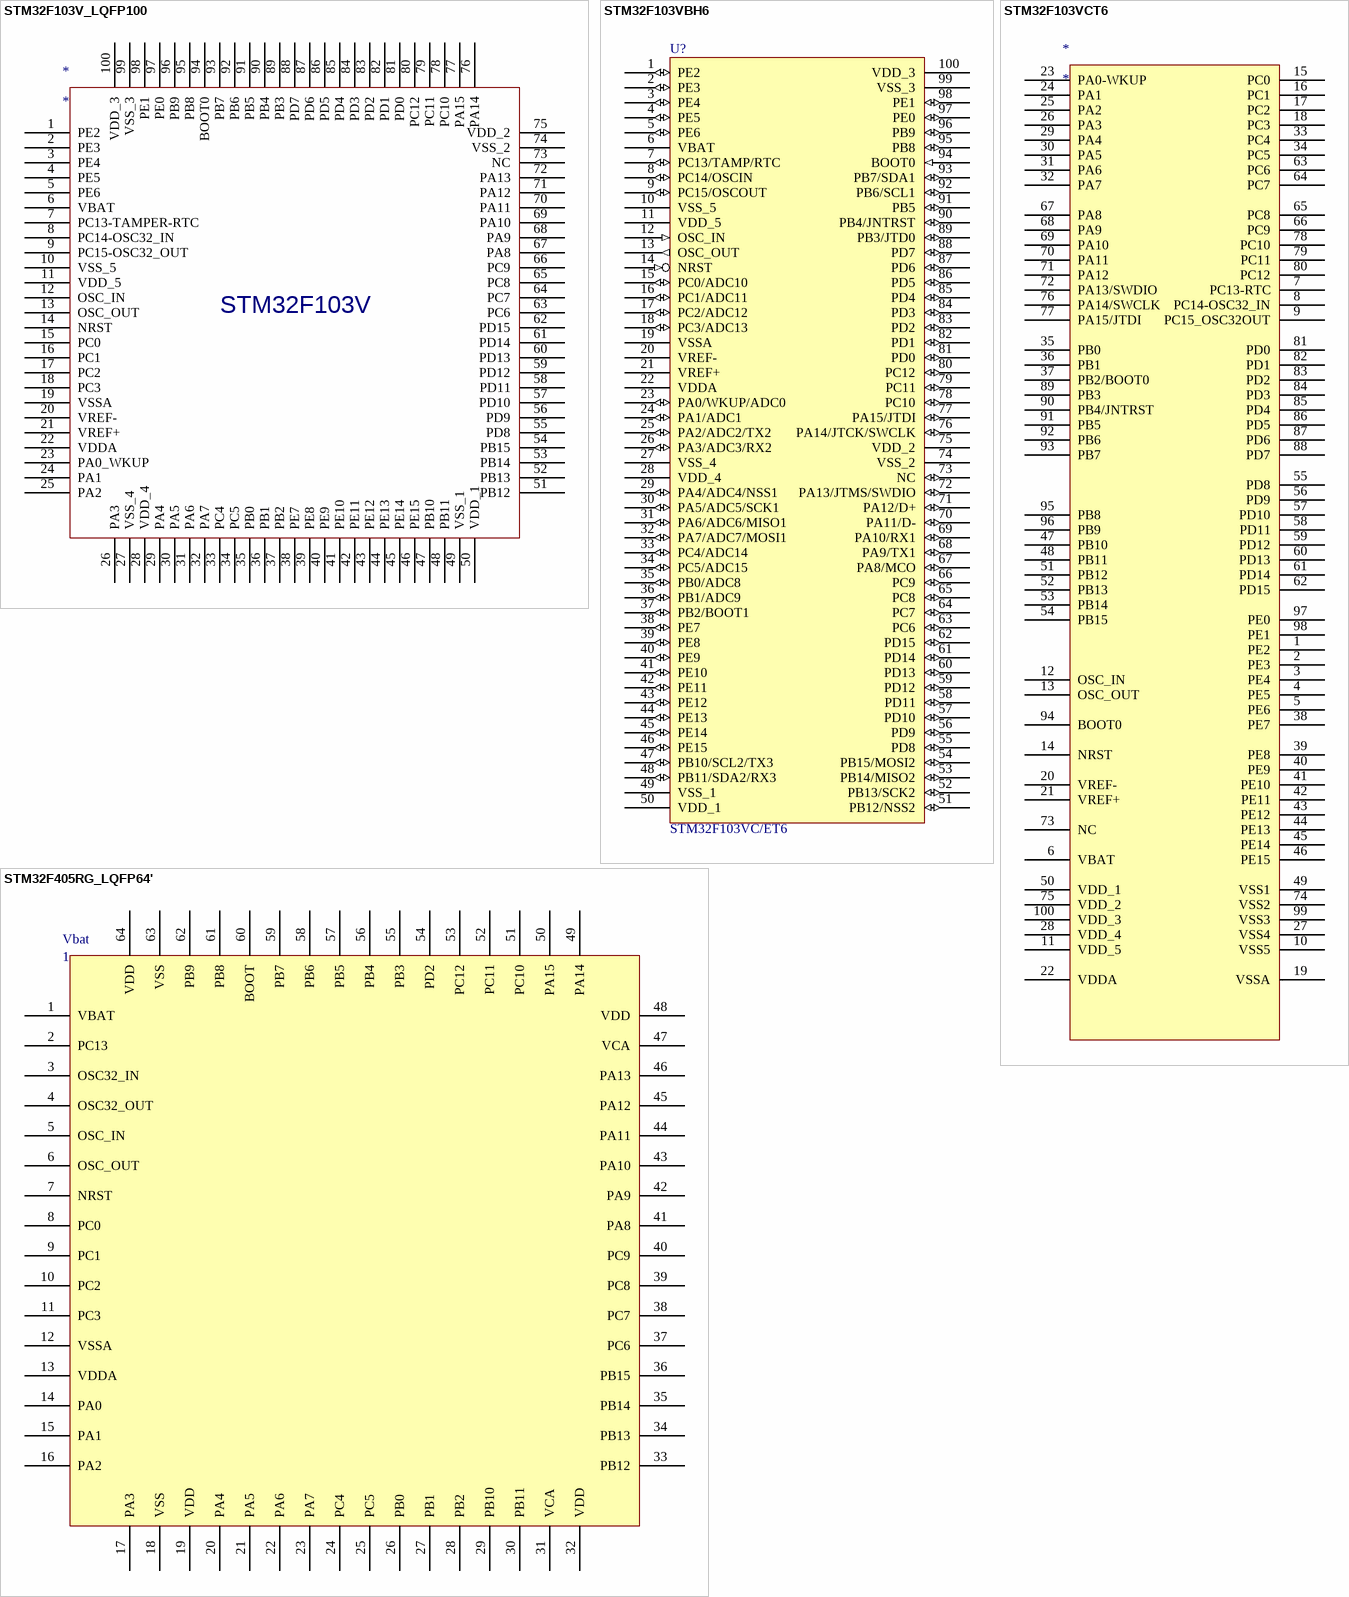
[diagram p4: symbols STM32F103V_LQFP100 to STM32F405RG_LQFP64']

## STM32F103V_LQFP100
designator *
footprint LQFP-100_14x14x05P
pins: 1 PE2, 2 PE3, 3 PE4, 4 PE5, 5 PE6, 6 VBAT, 7 PC13-TAMPER-RTC, 8 PC14-OSC32_IN, 9 PC15-OSC32_OUT, 10 VSS_5, 11 VDD_5, 12 OSC_IN, 13 OSC_OUT, 14 NRST, 15 PC0, 16 PC1, 17 PC2, 18 PC3, 19 VSSA, 20 VREF-, 21 VREF+, 22 VDDA, 23 PA0_WKUP, 24 PA1, 25 PA2, 26 PA3, 27 VSS_4, 28 VDD_4, 29 PA4, 30 PA5, 31 PA6, 32 PA7, 33 PC4, 34 PC5, 35 PB0, 36 PB1, 37 PB2, 38 PE7, 39 PE8, 40 PE9, 41 PE10, 42 PE11, 43 PE12, 44 PE13, 45 PE14, 46 PE15, 47 PB10, 48 PB11, 49 VSS_1, 50 VDD_1, 51 PB12, 52 PB13, 53 PB14, 54 PB15, 55 PD8, 56 PD9, 57 PD10, 58 PD11, 59 PD12, 60 PD13, 61 PD14, 62 PD15, 63 PC6, 64 PC7, 65 PC8, 66 PC9, 67 PA8, 68 PA9, 69 PA10, 70 PA11, 71 PA12, 72 PA13, 73 NC, 74 VSS_2, 75 VDD_2, 76 PA14, 77 PA15, 78 PC10, 79 PC11, 80 PC12, 81 PD0, 82 PD1, 83 PD2, 84 PD3, 85 PD4, 86 PD5, 87 PD6, 88 PD7, 89 PB3, 90 PB4, 91 PB5, 92 PB6, 93 PB7, 94 BOOT0, 95 PB8, 96 PB9, 97 PE0, 98 PE1, 99 VSS_3, 100 VDD_3
text: STM32F103V

## STM32F103VBH6
designator U?, comment STM32F103VC/ET6
footprint LQFP-100_14x14x05P
pins: 1 PE2 (io), 2 PE3 (io), 3 PE4 (io), 4 PE5 (io), 5 PE6 (io), 6 VBAT (power), 7 PC13/TAMP/RTC (io), 8 PC14/OSCIN (io), 9 PC15/OSCOUT (io), 10 VSS_5 (power), 11 VDD_5 (power), 12 OSC_IN (in), 13 OSC_OUT (out), 14 NRST (in), 15 PC0/ADC10 (io), 16 PC1/ADC11 (io), 17 PC2/ADC12 (io), 18 PC3/ADC13 (io), 19 VSSA (power), 20 VREF- (power), 21 VREF+ (power), 22 VDDA (power), 23 PA0/WKUP/ADC0 (io), 24 PA1/ADC1 (io), 25 PA2/ADC2/TX2 (io), 26 PA3/ADC3/RX2 (io), 27 VSS_4 (power), 28 VDD_4 (power), 29 PA4/ADC4/NSS1 (io), 30 PA5/ADC5/SCK1 (io), 31 PA6/ADC6/MISO1 (io), 32 PA7/ADC7/MOSI1 (io), 33 PC4/ADC14 (io), 34 PC5/ADC15 (io), 35 PB0/ADC8 (io), 36 PB1/ADC9 (io), 37 PB2/BOOT1 (io), 38 PE7 (io), 39 PE8 (io), 40 PE9 (io), 41 PE10 (io), 42 PE11 (io), 43 PE12 (io), 44 PE13 (io), 45 PE14 (io), 46 PE15 (io), 47 PB10/SCL2/TX3 (io), 48 PB11/SDA2/RX3 (io), 49 VSS_1 (power), 50 VDD_1 (power), 51 PB12/NSS2 (io), 52 PB13/SCK2 (io), 53 PB14/MISO2 (io), 54 PB15/MOSI2 (io), 55 PD8 (io), 56 PD9 (io), 57 PD10 (io), 58 PD11 (io), 59 PD12 (io), 60 PD13 (io), 61 PD14 (io), 62 PD15 (io), 63 PC6 (io), 64 PC7 (io), 65 PC8 (io), 66 PC9 (io), 67 PA8/MCO (io), 68 PA9/TX1 (io), 69 PA10/RX1 (io), 70 PA11/D- (io), 71 PA12/D+ (io), 72 PA13/JTMS/SWDIO (io), 73 NC (io), 74 VSS_2 (power), 75 VDD_2 (power), 76 PA14/JTCK/SWCLK (io), 77 PA15/JTDI (io), 78 PC10 (io), 79 PC11 (io), 80 PC12 (io), 81 PD0 (io), 82 PD1 (io), 83 PD2 (io), 84 PD3 (io), 85 PD4 (io), 86 PD5 (io), 87 PD6 (io), 88 PD7 (io), 89 PB3/JTD0 (io), 90 PB4/JNTRST (io), 91 PB5 (io), 92 PB6/SCL1 (io), 93 PB7/SDA1 (io), 94 BOOT0 (in), 95 PB8 (io), 96 PB9 (io), 97 PE0 (io), 98 PE1 (io), 99 VSS_3 (power), 100 VDD_3 (power)

## STM32F103VCT6
designator *
footprint LQFP-100_14x14x05P
pins: 1 PE2, 2 PE3, 3 PE4, 4 PE5, 5 PE6, 6 VBAT, 7 PC13-RTC, 8 PC14-OSC32_IN, 9 PC15_OSC32OUT, 10 VSS5, 11 VDD_5, 12 OSC_IN, 13 OSC_OUT, 14 NRST, 15 PC0, 16 PC1, 17 PC2, 18 PC3, 19 VSSA, 20 VREF-, 21 VREF+, 22 VDDA, 23 PA0-WKUP, 24 PA1, 25 PA2, 26 PA3, 27 VSS4, 28 VDD_4, 29 PA4, 30 PA5, 31 PA6, 32 PA7, 33 PC4, 34 PC5, 35 PB0, 36 PB1, 37 PB2/BOOT0, 38 PE7, 39 PE8, 40 PE9, 41 PE10, 42 PE11, 43 PE12, 44 PE13, 45 PE14, 46 PE15, 47 PB10, 48 PB11, 49 VSS1, 50 VDD_1, 51 PB12, 52 PB13, 53 PB14, 54 PB15, 55 PD8, 56 PD9, 57 PD10, 58 PD11, 59 PD12, 60 PD13, 61 PD14, 62 PD15, 63 PC6, 64 PC7, 65 PC8, 66 PC9, 67 PA8, 68 PA9, 69 PA10, 70 PA11, 71 PA12, 72 PA13/SWDIO, 73 NC, 74 VSS2, 75 VDD_2, 76 PA14/SWCLK, 77 PA15/JTDI, 78 PC10, 79 PC11, 80 PC12, 81 PD0, 82 PD1, 83 PD2, 84 PD3, 85 PD4, 86 PD5, 87 PD6, 88 PD7, 89 PB3, 90 PB4/JNTRST, 91 PB5, 92 PB6, 93 PB7, 94 BOOT0, 95 PB8, 96 PB9, 97 PE0, 98 PE1, 99 VSS3, 100 VDD_3

## STM32F405RG_LQFP64'
designator Vbat, comment 1
footprint STM-LQFP64_M (Thin QFP, 64-Leads, Body 10x10mm, Pitch 0.5mm, IPC Low Density)
pins: 1 VBAT, 2 PC13, 3 OSC32_IN, 4 OSC32_OUT, 5 OSC_IN, 6 OSC_OUT, 7 NRST, 8 PC0, 9 PC1, 10 PC2, 11 PC3, 12 VSSA, 13 VDDA, 14 PA0, 15 PA1, 16 PA2, 17 PA3, 18 VSS, 19 VDD, 20 PA4, 21 PA5, 22 PA6, 23 PA7, 24 PC4, 25 PC5, 26 PB0, 27 PB1, 28 PB2, 29 PB10, 30 PB11, 31 VCA, 32 VDD, 33 PB12, 34 PB13, 35 PB14, 36 PB15, 37 PC6, 38 PC7, 39 PC8, 40 PC9, 41 PA8, 42 PA9, 43 PA10, 44 PA11, 45 PA12, 46 PA13, 47 VCA, 48 VDD, 49 PA14, 50 PA15, 51 PC10, 52 PC11, 53 PC12, 54 PD2, 55 PB3, 56 PB4, 57 PB5, 58 PB6, 59 PB7, 60 BOOT, 61 PB8, 62 PB9, 63 VSS, 64 VDD

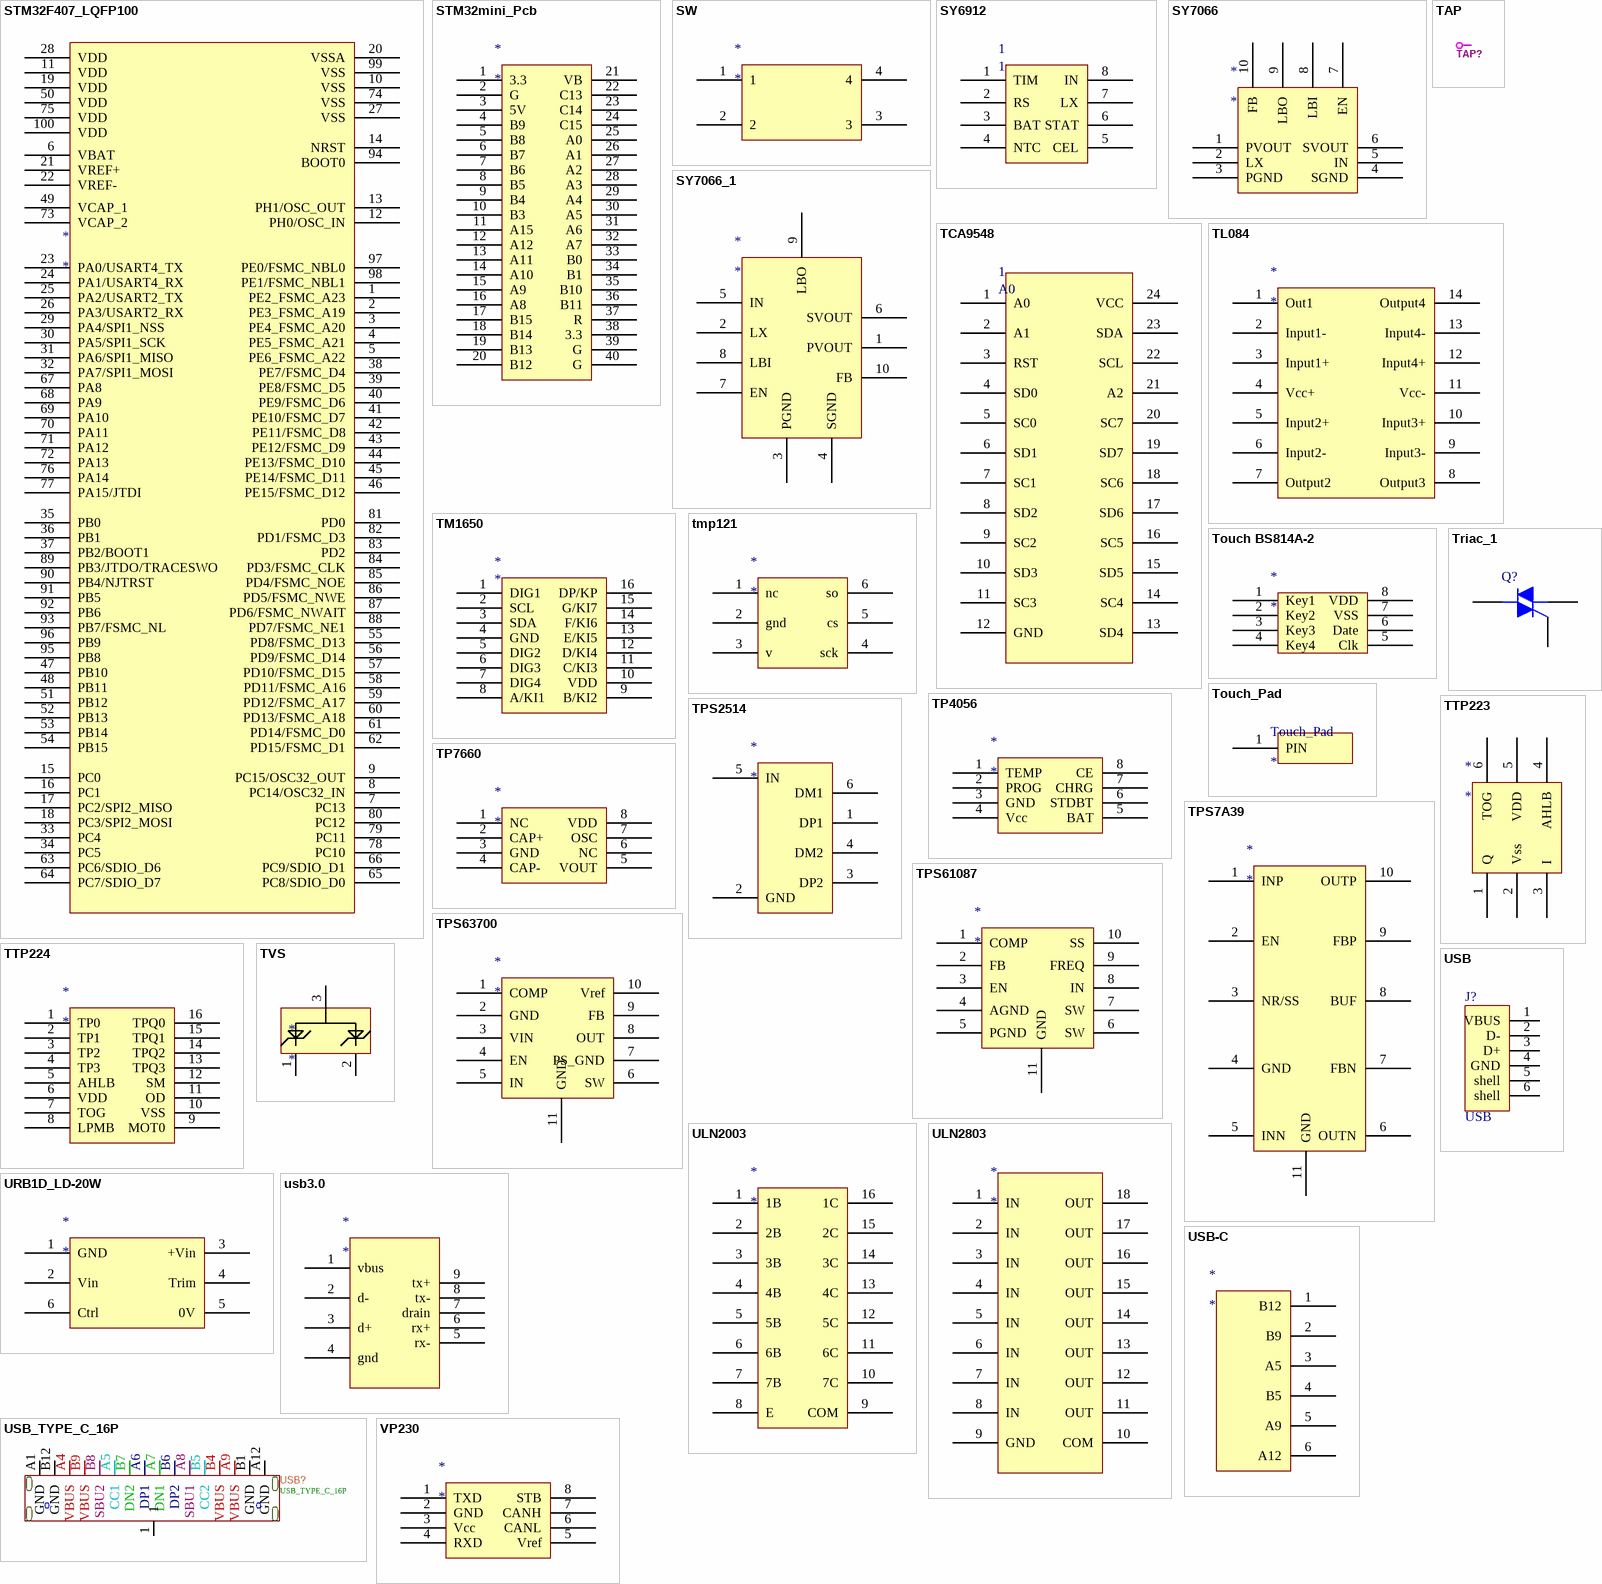
[diagram p5: symbols STM32F407_LQFP100 to VP230]

## STM32F407_LQFP100
designator *
pins: 1 PE2_FSMC_A23, 2 PE3_FSMC_A19, 3 PE4_FSMC_A20, 4 PE5_FSMC_A21, 5 PE6_FSMC_A22, 6 VBAT, 7 PC13, 8 PC14/OSC32_IN, 9 PC15/OSC32_OUT, 10 VSS, 11 VDD, 12 PH0/OSC_IN, 13 PH1/OSC_OUT, 14 NRST, 15 PC0, 16 PC1, 17 PC2/SPI2_MISO, 18 PC3/SPI2_MOSI, 19 VDD, 20 VSSA, 21 VREF+, 22 VREF-, 23 PA0/USART4_TX, 24 PA1/USART4_RX, 25 PA2/USART2_TX, 26 PA3/USART2_RX, 27 VSS, 28 VDD, 29 PA4/SPI1_NSS, 30 PA5/SPI1_SCK, 31 PA6/SPI1_MISO, 32 PA7/SPI1_MOSI, 33 PC4, 34 PC5, 35 PB0, 36 PB1, 37 PB2/BOOT1, 38 PE7/FSMC_D4, 39 PE8/FSMC_D5, 40 PE9/FSMC_D6, 41 PE10/FSMC_D7, 42 PE11/FSMC_D8, 43 PE12/FSMC_D9, 44 PE13/FSMC_D10, 45 PE14/FSMC_D11, 46 PE15/FSMC_D12, 47 PB10, 48 PB11, 49 VCAP_1, 50 VDD, 51 PB12, 52 PB13, 53 PB14, 54 PB15, 55 PD8/FSMC_D13, 56 PD9/FSMC_D14, 57 PD10/FSMC_D15, 58 PD11/FSMC_A16, 59 PD12/FSMC_A17, 60 PD13/FSMC_A18, 61 PD14/FSMC_D0, 62 PD15/FSMC_D1, 63 PC6/SDIO_D6, 64 PC7/SDIO_D7, 65 PC8/SDIO_D0, 66 PC9/SDIO_D1, 67 PA8, 68 PA9, 69 PA10, 70 PA11, 71 PA12, 72 PA13, 73 VCAP_2, 74 VSS, 75 VDD, 76 PA14, 77 PA15/JTDI, 78 PC10, 79 PC11, 80 PC12, 81 PD0, 82 PD1/FSMC_D3, 83 PD2, 84 PD3/FSMC_CLK, 85 PD4/FSMC_NOE, 86 PD5/FSMC_NWE, 87 PD6/FSMC_NWAIT, 88 PD7/FSMC_NE1, 89 PB3/JTDO/TRACESWO, 90 PB4/NJTRST, 91 PB5, 92 PB6, 93 PB7/FSMC_NL, 94 BOOT0, 95 PB8, 96 PB9, 97 PE0/FSMC_NBL0, 98 PE1/FSMC_NBL1, 99 VSS, 100 VDD

## STM32mini_Pcb
designator *
pins: 1 3.3, 2 G, 3 5V, 4 B9, 5 B8, 6 B7, 7 B6, 8 B5, 9 B4, 10 B3, 11 A15, 12 A12, 13 A11, 14 A10, 15 A9, 16 A8, 17 B15, 18 B14, 19 B13, 20 B12, 21 VB, 22 C13, 23 C14, 24 C15, 25 A0, 26 A1, 27 A2, 28 A3, 29 A4, 30 A5, 31 A6, 32 A7, 33 B0, 34 B1, 35 B10, 36 B11, 37 R, 38 3.3, 39 G, 40 G

## SW
designator *
footprint SW
pins: 1, 2, 3, 4

## SY6912
designator 1, comment 1
footprint SI4435
pins: 1 TIM, 2 RS, 3 BAT, 4 NTC, 5 CEL, 6 STAT, 7 LX, 8 IN

## SY7066
designator *
pins: 1 PVOUT, 2 LX, 3 PGND, 4 SGND, 5 IN, 6 SVOUT, 7 EN, 8 LBI, 9 LBO, 10 FB

## SY7066_1
designator *
pins: 1 PVOUT, 2 LX, 3 PGND, 4 SGND, 5 IN, 6 SVOUT, 7 EN, 8 LBI, 9 LBO, 10 FB

## TAP
designator TAP?  (value not drawn)
footprint TAP
pins: 1

## TCA9548
designator 1, comment A0
footprint LC-TSSOP-24
pins: 1 A0, 2 A1, 3 RST, 4 SD0, 5 SC0, 6 SD1, 7 SC1, 8 SD2, 9 SC2, 10 SD3, 11 SC3, 12 GND, 13 SD4, 14 SC4, 15 SD5, 16 SC5, 17 SD6, 18 SC6, 19 SD7, 20 SC7, 21 A2, 22 SCL, 23 SDA, 24 VCC

## TL084
designator *
footprint TSSOP14
pins: 1 Out1, 2 Input1-, 3 Input1+, 4 Vcc+, 5 Input2+, 6 Input2-, 7 Output2, 8 Output3, 9 Input3-, 10 Input3+, 11 Vcc-, 12 Input4+, 13 Input4-, 14 Output4

## TM1650
designator *
footprint SO-16
pins: 1 DIG1, 2 SCL, 3 SDA, 4 GND, 5 DIG2, 6 DIG3, 7 DIG4, 8 A/KI1, 9 B/KI2, 10 VDD, 11 C/KI3, 12 D/KI4, 13 E/KI5, 14 F/KI6, 15 G/KI7, 16 DP/KP

## tmp121
designator *
pins: 1 nc, 2 gnd, 3 v, 4 sck, 5 cs, 6 so

## Touch BS814A-2
designator *
footprint LM358
pins: 1 Key1, 2 Key2, 3 Key3, 4 Key4, 5 Clk, 6 Date, 7 VSS, 8 VDD

## Touch_Pad
designator Touch_Pad
footprint Touch_Pad
pins: 1 PIN

## TP4056
designator *
footprint LM358
pins: 1 TEMP, 2 PROG, 3 GND, 4 Vcc, 5 BAT, 6 STDBT, 7 CHRG, 8 CE

## TP7660
designator *
footprint LM358
pins: 1 NC, 2 CAP+, 3 GND, 4 CAP-, 5 VOUT, 6 NC, 7 OSC, 8 VDD

## TPS7A39
designator *
footprint WSON10-0.8
pins: 1 INP, 2 EN, 3 NR/SS, 4 GND, 5 INN, 6 OUTN, 7 FBN, 8 BUF, 9 FBP, 10 OUTP, 11 GND

## TPS2514
designator *
pins: 1 DP1, 2 GND, 3 DP2, 4 DM2, 5 IN, 6 DM1

## TPS61087
designator *
footprint WSON10-0.8
pins: 1 COMP, 2 FB, 3 EN, 4 AGND, 5 PGND, 6 SW, 7 SW, 8 IN, 9 FREQ, 10 SS, 11 GND

## TPS63700
designator *
footprint WSON10-0.8
pins: 1 COMP, 2 GND, 3 VIN, 4 EN, 5 IN, 6 SW, 7 PS_GND, 8 OUT, 9 FB, 10 Vref, 11 GND

## Triac_1
designator Q?
Silicon Bidirectional Triode Thyristor; Note: Pin 2 is electrically connected to Pin 4 (TAB); Published: 29-Sep-2000; LatestRevisionDate: 17-Jul-2002; LatestRevisionNote: Re-released for DXP Platform.; DatasheetVersion: 1999; PackageReference: 369-03; Publisher: Altium Limited; Code_JEDEC: TO-251-AA; ComponentLink1Description: Manufacturer Link; ComponentLink1URL: http://www.motorola.com/
footprint TO-220AB
pins: 1 M1, 2 M2, 3 G

## TTP223
designator *
footprint TTP223 (SOT23, 6-Leads, Body 2.90x2.85mm, Pitch 0.95mm, IPC Medium Density)
pins: 1 Q, 2 Vss, 3 I, 4 AHLB, 5 VDD, 6 TOG

## TTP224
designator *
footprint TSSOP-16
pins: 1 TP0, 2 TP1, 3 TP2, 4 TP3, 5 AHLB, 6 VDD, 7 TOG, 8 LPMB, 9 MOT0, 10 VSS, 11 OD, 12 SM, 13 TPQ3, 14 TPQ2, 15 TPQ1, 16 TPQ0

## TVS
designator *
ESD Protection PACDN042Y3R
footprint SOT-23
pins: 1, 2, 3

## ULN2003
designator *
footprint SO-16
pins: 1 1B, 2 2B, 3 3B, 4 4B, 5 5B, 6 6B, 7 7B, 8 E, 9 COM, 10 7C, 11 6C, 12 5C, 13 4C, 14 3C, 15 2C, 16 1C

## ULN2803
designator *
footprint SOIC18
pins: 1 IN, 2 IN, 3 IN, 4 IN, 5 IN, 6 IN, 7 IN, 8 IN, 9 GND, 10 COM, 11 OUT, 12 OUT, 13 OUT, 14 OUT, 15 OUT, 16 OUT, 17 OUT, 18 OUT

## URB1D_LD-20W
designator *
pins: 1 GND, 2 Vin, 3 +Vin, 4 Trim, 5 0V, 6 Ctrl

## USB
designator J?
footprint USB-A
pins: 1 VBUS, 2 D-, 3 D+, 4 GND, 5 shell, 6 shell

## usb3.0
designator *
pins: 1 vbus, 2 d-, 3 d+, 4 gnd, 5 rx-, 6 rx+, 7 drain, 8 tx-, 9 tx+

## USB-C
designator *
footprint USB-C
pins: 1 B12, 2 B9, 3 A5, 4 B5, 5 A9, 6 A12

## USB_TYPE_C_16P
designator USB?
TYPE-C 16P 母座高清数据 无边双向正反插母头; 高性价比款: https://item.taobao.com/item.htm?spm=a230r.1.14.124.23ed6f43FHqfHU&id=594569928803&ns=1&abbucket=18#detail; 镀金款: https://item.taobao.com/item.htm?spm=a230r.1.14.41.4feb423br3Z9yC&id=591296715027&ns=1&abbucket=18#detail
footprint USB Type-C-16Pin_A
pins: 1, A1 GND, A4 VBUS, A5 CC1, A6 DP1, A7 DN1, A8 SBU1, A9 VBUS, A12 GND, B1 GND, B4 VBUS, B5 CC2, B6 DP2, B7 DN2, B8 SBU2, B9 VBUS, B12 GND

## VP230
designator *
footprint VP230_Can (SOIC, 8-Leads, Body 4.90x3.90mm, Pitch 1.27mm, IPC Medium Density)
footprint VP230_Can (SOIC, 8-Leads, Body 4.90x3.90mm, Pitch 1.27mm, IPC Medium Density)
pins: 1 TXD, 2 GND, 3 Vcc, 4 RXD, 5 Vref, 6 CANL, 7 CANH, 8 STB

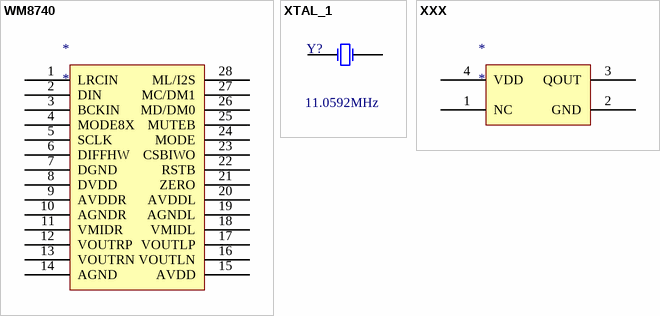
[diagram p6: symbols WM8740 to XXX]

## WM8740
designator *
pins: 1 LRCIN, 2 DIN, 3 BCKIN, 4 MODE8X, 5 SCLK, 6 DIFFHW, 7 DGND, 8 DVDD, 9 AVDDR, 10 AGNDR, 11 VMIDR, 12 VOUTRP, 13 VOUTRN, 14 AGND, 15 AVDD, 16 VOUTLN, 17 VOUTLP, 18 VMIDL, 19 AGNDL, 20 AVDDL, 21 ZERO, 22 RSTB, 23 CSBIWO, 24 MODE, 25 MUTEB, 26 MD/DM0, 27 MC/DM1, 28 ML/I2S

## XTAL_1
designator Y?, comment 11.0592MHz
Crystal Oscillator; Published: 8-Jun-2000; LatestRevisionDate: 17-Jul-2002; LatestRevisionNote: Re-released for DXP Platform.; PackageReference: R38; Publisher: Altium Limited; Value: 11.0592MHz
footprint XTAL (Radial Cap, Thru-Hole; 2 Leads; 0.2 in Pin Spacing)
footprint XXX - duplicate
footprint SMD2_50X32_8M
pins: 1 OSC1, 2 OSC2

## XXX
designator *
footprint 7050
pins: 1 NC, 2 GND, 3 QOUT, 4 VDD